# Altium integrated library SEG_LED.IntLib: 1 symbol
Pins are listed as number, name and electrical type; pins without a type are passive.

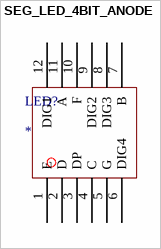
[diagram p0: symbol SEG_LED_4BIT_ANODE]

## SEG_LED_4BIT_ANODE
designator LED?
footprint SEG_LED_0.56_4BIT
pins: 1 E, 2 D, 3 DP, 4 C, 5 G, 6 DIG4, 7 B, 8 DIG3, 9 DIG2, 10 F, 11 A, 12 DIG1